# Altium footprint library SON50P160X100_HS-17M.PcbLib: 1 footprints
Each footprint in its own frame and in the unit in brackets; x right, y up, seen from the top. Pads: shape width x height; smd on the part's side, far side on the other; paste and mask are expansions set on the pad; w line width, h text height; cw(c..) or ccw(c..) is an arc to the next point about the centre after c.
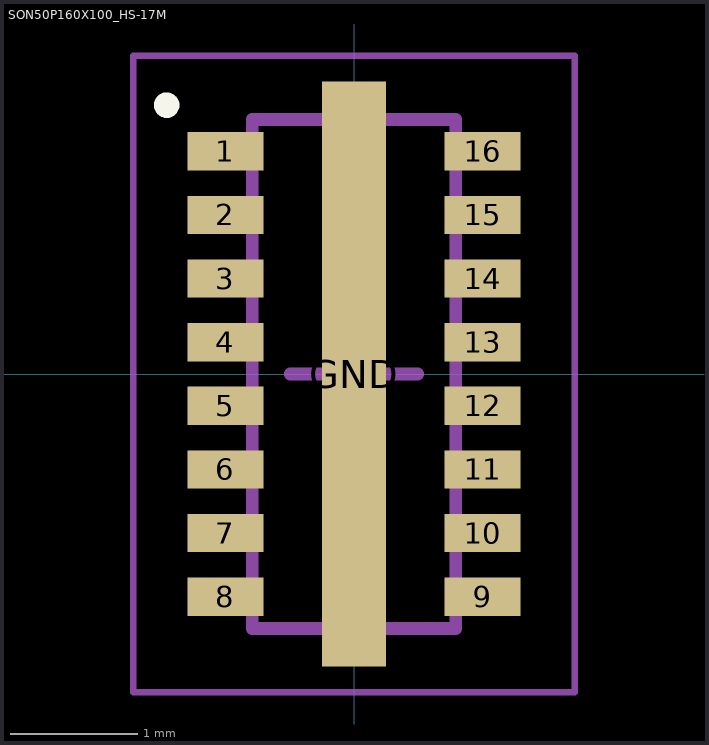
[diagram p0: the footprint, top view; thin cyan lines are the x and y axes]

## SON50P160X100_HS-17M [mm] "SON, 16-Leads, Body 4.00x1.60mm, Pitch 0.50mm, Thermal Pad 4.10x0.50mm, IPC Low Density"
height 1
pads (17):
  rect 0.6x0.3 smd: 1(-1.01,1.75) 2(-1.01,1.25) 3(-1.01,0.75) 4(-1.01,0.25) 5(-1.01,-0.25) 6(-1.01,-0.75) 7(-1.01,-1.25) 8(-1.01,-1.75) 9(1.01,-1.75) 10(1.01,-1.25) 11(1.01,-0.75) 12(1.01,-0.25) 13(1.01,0.25) 14(1.01,0.75) 15(1.01,1.25) 16(1.01,1.75)
  rect 0.5x4.6 smd: GND(0,0)
Top Overlay:
  circle w0.1: c-1.472,2.112 r0.05
Mechanical 13:
  lines w0.1: -0.8,-2 0.8,-2 0.8,2 -0.8,2 -0.8,-2
Mechanical 15:
  lines w0.05: -1.735,-2.5 1.735,-2.5 1.735,2.5 -1.735,2.5 -1.735,-2.5
  lines w0.1: -0.5,0 0.5,0 ; 0,-0.5 0,0.5
3D body: height 1, standoff 0, extent -0.8,-2 0.8,2